# Altium footprint library IDC-2x25_2mm.PcbLib: 1 footprints
Each footprint in its own frame and in the unit in brackets; x right, y up, seen from the top. Pads: shape width x height; smd on the part's side, far side on the other; paste and mask are expansions set on the pad; w line width, h text height; cw(c..) or ccw(c..) is an arc to the next point about the centre after c.
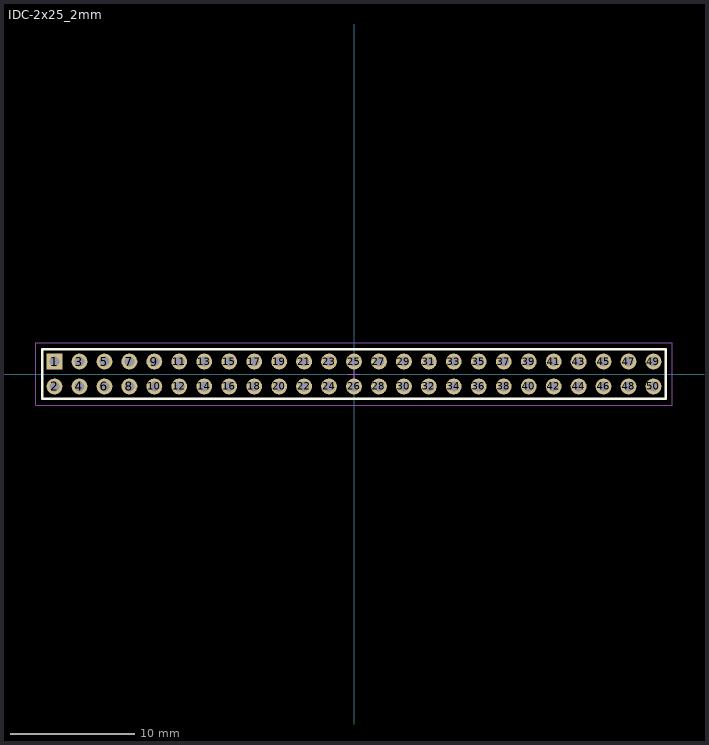
[diagram p0: the footprint, top view; thin cyan lines are the x and y axes]

## IDC-2x25_2mm [mm]
pads (50):
  rect 1.27x1.27 hole 0.813: 1(-24,1)
  round 1.27 hole 0.813: 2(-24,-1) 3(-22,1) 4(-22,-1) 5(-20,1) 6(-20,-1) 7(-18,1) 8(-18,-1) 9(-16,1) 10(-16,-1) 11(-14,1) 12(-14,-1) 13(-12,1) 14(-12,-1) 15(-10,1) 16(-10,-1) 17(-8,1) 18(-8,-1) 19(-6,1) 20(-6,-1) 21(-4,1) 22(-4,-1) 23(-2,1) 24(-2,-1) 25(0,1) 26(0,-1) 27(2,1) 28(2,-1) 29(4,1) 30(4,-1) 31(6,1) 32(6,-1) 33(8,1) 34(8,-1) 35(10,1) 36(10,-1) 37(12,1) 38(12,-1) 39(14,1) 40(14,-1) 41(16,1) 42(16,-1) 43(18,1) 44(18,-1) 45(20,1) 46(20,-1) 47(22,1) 48(22,-1) 49(24,1) 50(24,-1)
Top Overlay:
  lines w0.203: -25,-2 25,-2 25,2 -25,2 -25,-2
Mechanical 13:
  lines w0.05: -25,-2 -25,2 ; -25.5,-2.5 -25.5,2.5 25.5,2.5 25.5,-2.5 -25.5,-2.5
  lines w0.1: -25,-2 25,-2 25,2 -25,2
Mechanical 15:
  lines w0.05: -0.5,0 0.5,0 ; 0,-0.5 0,0.5
3D body: height 6, standoff 0, extent -24.999,-1.999 24.999,1.999